# EAGLE library part MCP4661-103E/ST (library MCP4661-103E_ST)
IC DGTL POT 10K 256TAPS
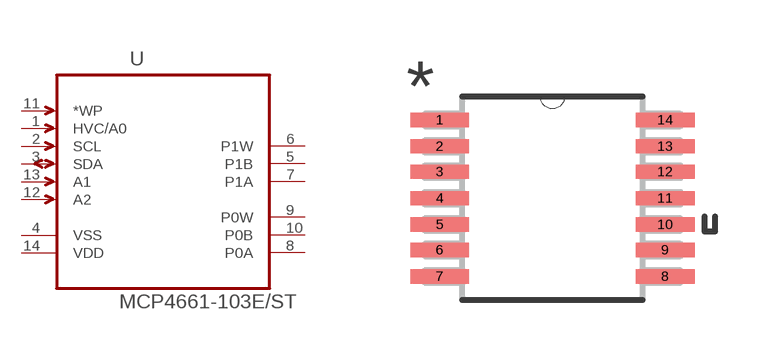
[diagram p0: symbol with the pads of SOP65P640X120-14N; footprint SOP65P640X120-14N]

Designator prefix U

## MCP4661-103E/ST (Availability: Unavailable; Description: MCP4661 Series 8 Bit Dual 10 kOhm I2C Digital Potentiometer - TSSOP-14; MF: Microchip; MP: MCP4661-103E/ST; Package: TSSOP-14 Microchip; Price: None)  [SOP65P640X120-14N]
1  HVC/A0  in
2  SCL  in
3  SDA
4  VSS  pwr
5  P1B  pas
6  P1W  pas
7  P1A  pas
8  P0A  pas
9  P0W  pas
10  P0B  pas
11  *WP  in
12  A2  in
13  A1  in
14  VDD  pwr

## Footprint SOP65P640X120-14N (pad centres in mm)
smd 1.473 x 0.356: 1 -2.819,1.956; 2 -2.819,1.295; 3 -2.819,0.66; 4 -2.819,0; 5 -2.819,-0.66; 6 -2.819,-1.295; 7 -2.819,-1.956; 8 2.819,-1.956; 9 2.819,-1.295; 10 2.819,-0.66; 11 2.819,0; 12 2.819,0.66; 13 2.819,1.295; 14 2.819,1.956